# EAGLE library part LTC4360 (library BQ25504)
An overvoltage protection IC. Clamps at 5.5V
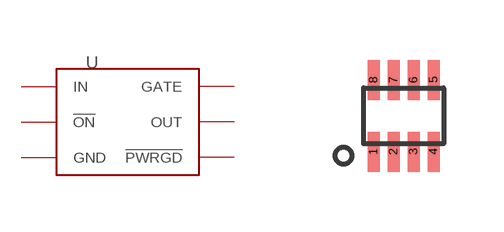
[diagram p67: symbol with the pads of SC70-8; footprint SC70-8]

Designator prefix U

## LTC4360 (DIGIKEY: LTC4360CSC8-1#TRMPBFCT-ND)  [SC70-8]
1  IN
2  GND
3  GND
4  GND
5  !PWRGD
6  !ON
7  OUT
8  GATE

## Footprint SC70-8 (pad centres in mm)
smd 0.3 x 1: 1 -0.75,-0.9; 2 -0.25,-0.9; 3 0.25,-0.9; 4 0.75,-0.9; 5 0.75,0.9; 6 0.25,0.9; 7 -0.25,0.9; 8 -0.75,0.9